# Altium integrated library Motorized_Blinds_IntLib.IntLib: 16 symbols
Pins are listed as number, name and electrical type; pins without a type are passive.

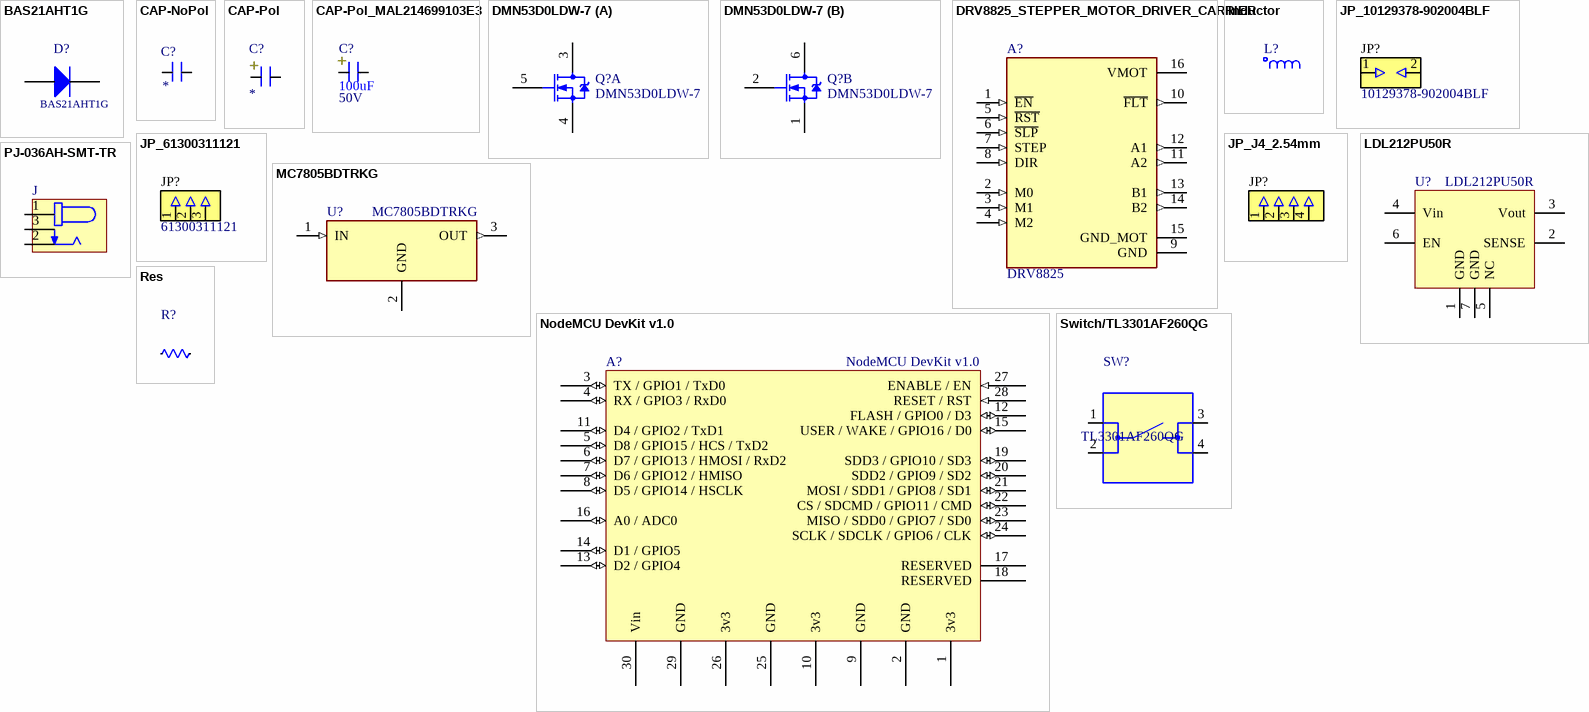
[diagram p0: symbols BAS21AHT1G to Switch/TL3301AF260QG]

## BAS21AHT1G
designator D?
DIODE GEN PURP 250V 200MA SOD323; MFPN: BAS21AHT1G; Value: BAS21AHT1G
footprint SOD323
pins: 1, 2

## CAP-NoPol
designator C?
SMCAP NoPol; Vmax: *
footprint C0201
footprint C0402
footprint C0603
footprint C0805
footprint C1206
footprint C1210
pins: 1, 2

## CAP-Pol
designator C?
SMCAP Pol; Vmax: *
footprint C0201
footprint C0402
footprint C0603
footprint C0805
footprint C1206
footprint C1210
pins: 1, 2
text: +

## CAP-Pol_MAL214699103E3
designator C?, comment Vmax: 50V  (hidden comment: 100uF)
CAP ALUM 100UF 20% 50V SMD; Manufacturer: Vishay; MFPN: MAL214699103E3; Value: 100uF
footprint CAPAE1050X1050N
pins: 1, 2
text: +

## DMN53D0LDW-7
designator Q?
MOSFET 2N-CH 50V 0.36A SOT363; MFPN: DMN53D0LDW-7; Value: DMN53D0LDW-7
footprint SOT363
part A pins: 3 D1, 4 S1, 5 G1
part B pins: 1 S2, 2 G2, 6 D2

## DRV8825_STEPPER_MOTOR_DRIVER_CARRIER
designator A?, comment DRV8825
DRV8825 Motor Controller/Driver Power Management Evaluation Board; Manufacturer: Pololu; MFPN: DRV8825 STEPPER MOTOR DRIVER CARRIER; Value: DRV8825
footprint IC_DRV8825_STEPPER_MOTOR_DRIVER_CARRIER
pins: 1 ~{EN} (in), 2 M0 (in), 3 M1 (in), 4 M2 (in), 5 ~{RST} (in), 6 ~{SLP} (in), 7 STEP (in), 8 DIR (in), 9 GND (power), 10 ~{FLT} (out), 11 A2 (out), 12 A1 (out), 13 B1 (out), 14 B2 (out), 15 GND_MOT (power), 16 VMOT (power)

## Inductor
designator L?
SMIND
footprint L0201
footprint L0402
footprint L0603
footprint L0805
footprint L1206
footprint L1210
pins: 1, 2

## JP_10129378-902004BLF
designator JP?, comment 10129378-902004BLF
CONN HEADER VERT 2POS 2.54MM; VALUE: 10129378-902004BLF; MFPN: 10129378-902004BLF
footprint JP_10129378-902004BLF
pins: 1, 2

## JP_61300311121
designator JP?, comment 61300311121
CONN HEADER VERT 3POS 2.54MM; VALUE: 61300311121; MFPN: 61300311121
footprint JP_61300311121
pins: 1, 2, 3

## JP_J4_2.54mm
designator JP?
CONN HEADER VERT 4POS 2.54MM
footprint JP_J4_2.54mm (CONN HEADER VERT 4POS 2.54MM)
pins: 1, 2, 3, 4

## LDL212PU50R
designator U?
IC REG LINEAR 5V 1.2A 6DFN; MFPN: LDL212PU50R; Value: LDL212PU50R
footprint LDL212PU50R (IC REG LINEAR 5V 1.2A 6DFN)
pins: 1 GND, 2 SENSE, 3 Vout, 4 Vin, 5 NC, 6 EN, 7 GND

## MC7805BDTRKG
designator U?
Linear Voltage Regulator IC 1 Output 1A DPAK; Manufacturer: ON Semiconductor; MFPN: MC7805BDTRKG; Value: MC7805BDTRKG
footprint DPAK229P990X238-4N
pins: 1 IN (in), 2 GND (power), 3 OUT (out)

## NodeMCU DevKit v1.0
designator A?
MFPN: NodeMCU DevKit v1.0; Value: NodeMCU DevKit v1.0
footprint NodeMCU DevKit v1.0 - Inside Labels
footprint NodeMCU DevKit v1.0 - No Labels
footprint NodeMCU DevKit v1.0 - Outside Labels
pins: 1 3v3 (power), 2 GND (power), 3 TX / GPIO1 / TxD0 (io), 4 RX / GPIO3 / RxD0 (io), 5 D8 / GPIO15 / HCS / TxD2 (io), 6 D7 / GPIO13 / HMOSI / RxD2 (io), 7 D6 / GPIO12 / HMISO (io), 8 D5 / GPIO14 / HSCLK (io), 9 GND (power), 10 3v3 (power), 11 D4 / GPIO2 / TxD1 (io), 12 FLASH / GPIO0 / D3 (io), 13 D2 / GPIO4 (io), 14 D1 / GPIO5 (io), 15 USER / WAKE / GPIO16 / D0 (io), 16 A0 / ADC0 (io), 17 RESERVED, 18 RESERVED, 19 SDD3 / GPIO10 / SD3 (io), 20 SDD2 / GPIO9 / SD2 (io), 21 MOSI / SDD1 / GPIO8 / SD1 (io), 22 CS / SDCMD / GPIO11 / CMD (io), 23 MISO / SDD0 / GPIO7 / SD0 (io), 24 SCLK / SDCLK / GPIO6 / CLK (io), 25 GND (power), 26 3v3 (power), 27 ENABLE / EN (in), 28 RESET / RST (in), 29 GND, 30 Vin

## PJ-036AH-SMT-TR
designator J  (value not drawn)
2.0 x 6.3 mm, 5.0 A, Horizontal, Surface Mount _SMT_, Dc Power Jack Connector; Manufacturer: CUI Devices; Value: PJ-036AH-SMT-TR; MFPN: PJ-036AH-SMT-TR
footprint CUI_PJ-036AH-SMT-TR
pins: 1, 2, 3

## Res
designator R?
SMRES
footprint R0201
footprint R0402
footprint R0603
footprint R0805
footprint R1206
footprint R1210
pins: 1, 2

## Switch/TL3301AF260QG
designator SW?, comment TL3301AF260QG
Switch, SMT SPST 6mm; Value: TL3301AF260QG; MFPN: TL3301AF260QG
footprint SWITCH_TL3301
pins: 1, 2, 3, 4